# EAGLE library part OPENMV5-BOTTOM (library openmv5)
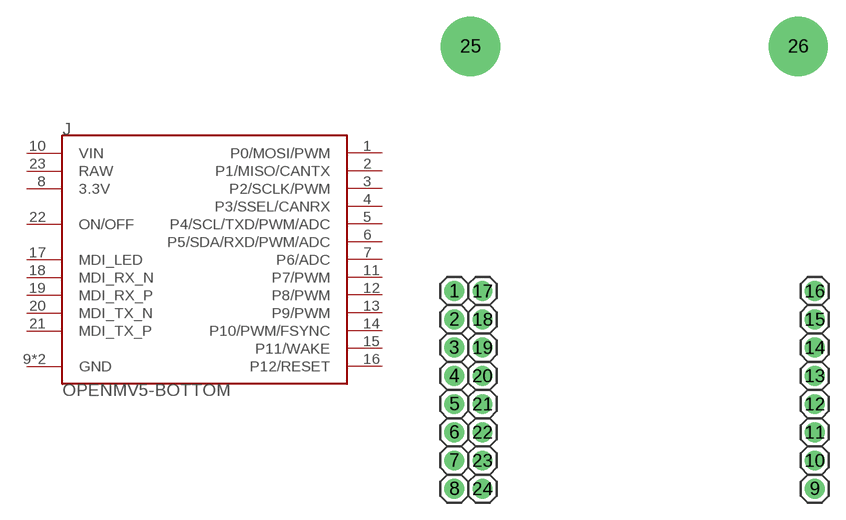
[diagram p1: symbol with the pads of OPENMV5-BOTTOM; footprint OPENMV5-BOTTOM]

Designator prefix J

## OPENMV5-BOTTOM  [OPENMV5-BOTTOM]
1  P0/MOSI/PWM
2  P1/MISO/CANTX
3  P2/SCLK/PWM
4  P3/SSEL/CANRX
5  P4/SCL/TXD/PWM/ADC
6  P5/SDA/RXD/PWM/ADC
7  P6/ADC
8  3.3V  sup
9  GND  pwr
10  VIN  sup
11  P7/PWM
12  P8/PWM
13  P9/PWM
14  P10/PWM/FSYNC
15  P11/WAKE
16  P12/RESET
17  MDI_LED
18  MDI_RX_N
19  MDI_RX_P
20  MDI_TX_N
21  MDI_TX_P
22  ON/OFF
23  RAW  sup
24  GND  pwr

## Footprint OPENMV5-BOTTOM (pad centres in mm)
drill 1.016 pad 1.778: 1 1.6,19.38; 2 1.6,16.84; 3 1.6,14.3; 4 1.6,11.76; 5 1.6,9.22; 6 1.6,6.68; 7 1.6,4.14; 8 1.6,1.6; 9 34,1.6; 10 34,4.14; 11 34,6.68; 12 34,9.22; 13 34,11.76; 14 34,14.3; 15 34,16.84; 16 34,19.38; 17 4.14,19.38; 18 4.14,16.84; 19 4.14,14.3; 20 4.14,11.76; 21 4.14,9.22; 22 4.14,6.68; 23 4.14,4.14; 24 4.14,1.6
drill 2.8 pad 5.334: 25 3.048,41.402; 26 32.512,41.402